# Altium integrated library ESP32 WROOM.IntLib: 1 symbol
Pins are listed as number, name and electrical type; pins without a type are passive.

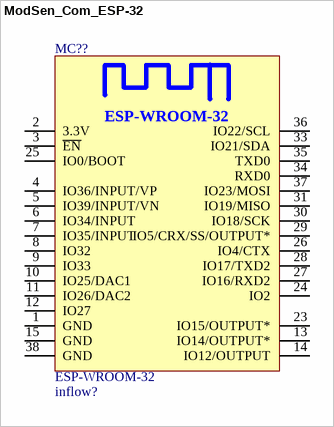
[diagram p0: symbol ModSen_Com_ESP-32]

## ModSen_Com_ESP-32
designator MC??, comment Inflow: inflow?  (hidden comment: ESP-WROOM-32)
WiFi + Bluetooth/BLE Module; Rating: Rating?; Validation: Valid; Package: SMD; Type: WROOM; Value: ESP-WROOM-32
footprint ESP-WROOM-32 (ESP-WROOM-32, 39-Leads, Pitch 1.27mm)
pins: 1 GND (power), 2 3.3V (power), 3 ~{EN}, 4 IO36/INPUT/VP, 5 IO39/INPUT/VN, 6 IO34/INPUT, 7 IO35/INPUT, 8 IO32, 9 IO33, 10 IO25/DAC1, 11 IO26/DAC2, 12 IO27, 13 IO14/OUTPUT*, 14 IO12/OUTPUT, 15 GND (power), 23 IO15/OUTPUT*, 24 IO2, 25 IO0/BOOT, 26 IO4/CTX, 27 IO16/RXD2, 28 IO17/TXD2, 29 IO5/CRX/SS/OUTPUT*, 30 IO18/SCK, 31 IO19/MISO, 33 IO21/SDA, 34 RXD0, 35 TXD0, 36 IO22/SCL, 37 IO23/MOSI, 38 GND (power)